# Altium integrated library Linear Technology Power Management Hot Swap Controllers.IntLib: 992 symbols (part 59 of 93)
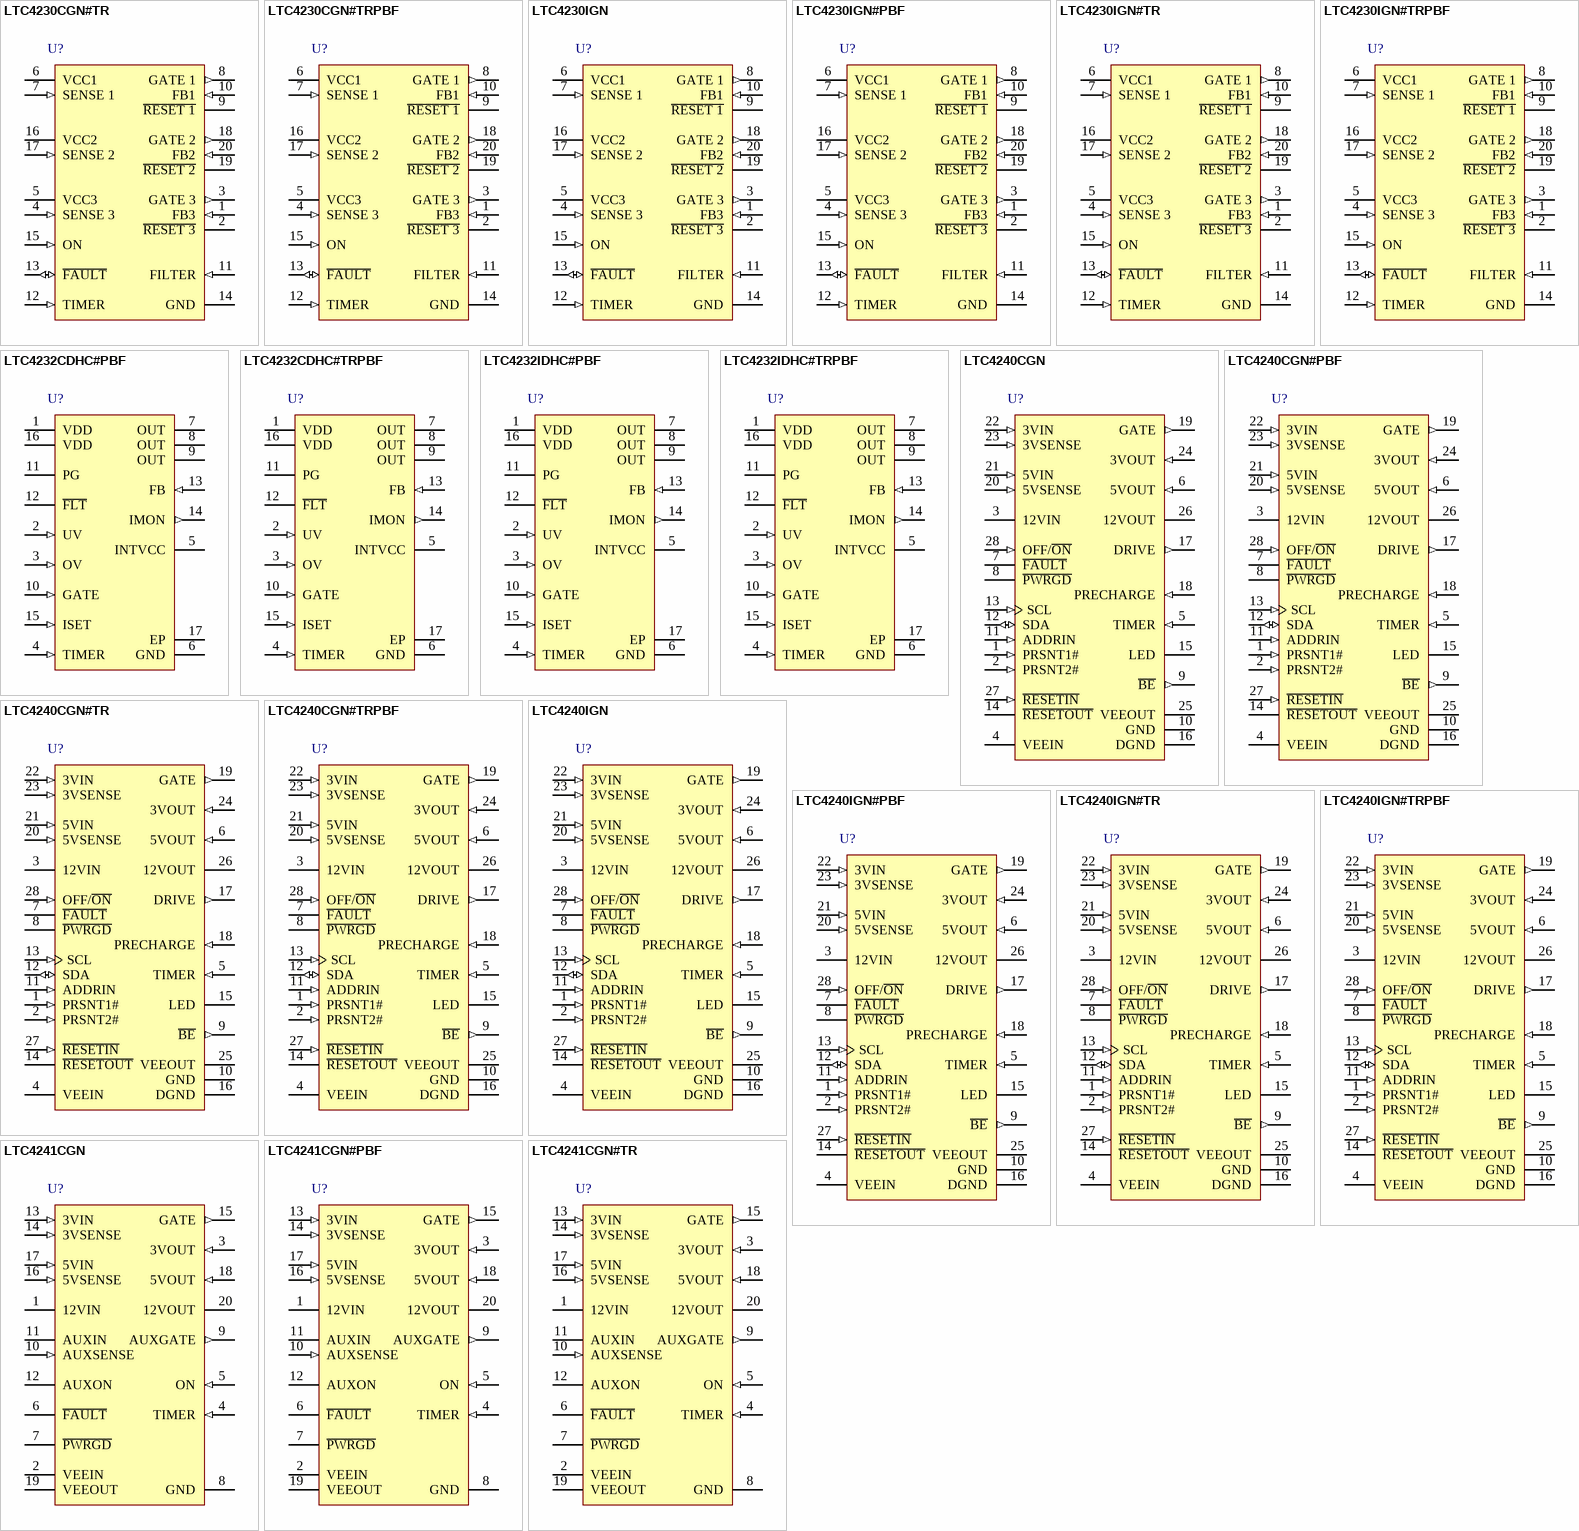
[diagram p95: symbols LTC4230CGN#TR to LTC4241CGN#TR]

## LTC4240CGN#TRPBF
designator U?
Compact PCI Hot Swap Controller with I2C Compatible Interface, 3.3 V, 5 V, +/-12 V Vin, 28-pin SOP (GN-28), 0 to 70 degC, Pb-Free, Tape and Reel; Manufacturer: Linear Technology; PartNumber: LTC4240CGN#TRPBF; Active Limiting: yes; Circuit Breaker Accuracy(%): 9; Circuit Breaker Threshold: 55 mV; Circuit Breakers(#): 4; Extended Temp: C, I; Fast Comparator: no; In-Rush Current: Active; PackageVersion: Rev. B, 03/2012; PackageReference: GN-28; PackageDescription: 28-Pin Plastic SSOP, Body 9.9 x 3.9 mm, Pitch 0.635 mm; Supplier 1: Digi-Key; Supplier Part Number 1: LTC4240CGN#TRPBF-ND; Fault: yes; Foldback: yes; Packing: Tape and Reel; Power Good: yes; Reset: no; RoHS: TRUE; Vin Range: 3.3 V, 5 V, +/-12 V; Mounting Technology: Surface Mount; ComponentLink1Description: Manufacturer URL; ComponentLink1URL: http://www.linear.com/; ComponentLink2Description: Datasheet; ComponentLink2URL: http://cds.linear.com/docs/en/datasheet/4240f.pdf; ComponentLink3Description: Package Specification; ComponentLink3URL: http://cds.linear.com/docs/en/packaging/05081641_B_GN28.pdf
footprint LT-GN-28_N (SOP, 28-Leads, Body 9.98x3.98mm, Pitch 0.635mm, IPC Medium Density)
footprint LT-GN-28_L (SOP, 28-Leads, Body 9.98x3.98mm, Pitch 0.635mm, IPC High Density)
footprint LT-GN-28_M (SOP, 28-Leads, Body 9.98x3.98mm, Pitch 0.635mm, IPC Low Density)
pins: 1 PRSNT1# (in) "PCI Present Detect Input 1. PRSNT1# and PRSNT2# are readable over the I2C Bus. PRSNT1# and PRSNT2# indicate the maximum power used by the card. Do not float.", 2 PRSNT2# (in) "PCI Present Detect Input 2. Do not float.", 3 12VIN (power) "12V Supply Input. A 0.5ohm switch is internally connected between 12VIN and 12VOUT with foldback current limit. An undervoltage lockout circuit prevents the switches from turning on while the 12VIN pin is below 8V. 12VIN (See Datasheet)", 4 VEEIN (power) "-12V Supply Input. A 1ohm internal switch is connected between VEEIN and VEEOUT with foldback current limit. An undervoltage lockout circuit prevents the switches from turning on while VEEIN is above - 9V. See Connecting (See Datasheet)", 5 TIMER (in) "Current Fault Inhibit Timing Input. Connect a capacitor from TIMER to GND. With the LTC4240 turned off (OFF/O\N\ = HIGH), the TIMER pin is internally held at GND. When the device is turned on, an 11.5uA pull-up current (See Datasheet)", 6 5VOUT (in) "5V Output Sense. The P\W\R\G\D\ pin will not pull low until the 5VOUT pin voltage exceeds 4.65V. When the power switches are turned off, a 50ohm resistor pulls 5VOUT to ground.", 7 ~{FAULT} (oc) "Open-Drain Fault Output . F\A\U\L\T\ is pulled low when a current limit fault is detected. Current limit faults are ignored until the voltage at the TIMER pin is above 5.5V. Once the TIMER cycle is complete, F\A\U\L\T\ pulls (See Datasheet)", 8 ~{PWRGD} (oc) "Open-Drain Power Good Output. Connect the CPCI HEALTHY# signal to the P\W\R\G\D\ pin. P\W\R\G\D\ remains low while V12VOUT>= 11.1V, V3VOUT>=2.9V, V5VOUT >=4.65V and VEEOUT=<-10.5V. When any of the supplies drops below its (See Datasheet)", 9 ~{BE} (out) "QuickSwitch Bus Enable Output. The B\E\ output remains high until power is good on all supplies. This serves to isolate the I/O data lines during live insertion. This is a CMOS output powered by 5VIN.", 10 GND (power) "Analog Ground. Connect to analog ground plane.", 11 ADDRIN (in) "I2C Address Programming Input. The I2C address is programmed by connecting the ADDRIN pin to a resistor divider between the 5VIN pin and GND. See Table 1 for 1% resistor values and corresponding addresses. Resistors must be (See Datasheet)", 12 SDA (io) "I2C Data Input and Output. Note that TTL levels are used. Connect this pin to ground if I2C is not used.", 13 SCL (in) "I2C Clock Input, 100kHz Maximum. Note that TTL levels are used. Do not float. Connect this pin to ground if I2C is not used.", 14 ~{RESETOUT} (oc) "Open-Drain Reset Output. Connect the CPCI LOCAL_PCI_RST# signal to the R\E\S\E\T\O\U\T\ pin. R\E\S\E\T\O\U\T\ is the logical combination of P\W\R\G\D\, and I2C R\E\S\E\T\O\U\T\ latch output.", 15 LED (oc) "CPCI Status LED. Pulls low to light LED when R\E\S\E\T\O\U\T\ is low or when the I2C LED latch is set.", 16 DGND (power) "Digital Ground. Connect to ground plane.", 17 DRIVE (out) "External transistor’s base drive output for bus precharge. Connects to the base of an external NPN emitter-follower which in turn biases the PRECHARGE node. An external 1k resistor between the transistor’s base and 3(See Datasheet)", 18 PRECHARGE (in) "Precharge Monitor Input. An internal error amplifier servos the DRIVE pin voltage to keep the precharge node at 1V. Becomes valid when long 5V and 3.3V power pins make contact .Tie pins 17 and 18 together if precharge (See Datasheet)", 19 GATE (out) "High Side Gate Drive for the External 3.3V and 5V N-Channel Power Transistors. An external series RC network is required for the current limit loop compensation and to set the maximum ramp-up rate. During power-up, the slope (See Datasheet)", 20 5VSENSE (in) "5V Current Limit Sense. A sense resistor placed between 5VIN and 5VSENSE determines the current limit for this supply. A foldback current feature makes the current limit decrease as the voltage at the 5VOUT pin approaches 0V.(See Datasheet)", 21 5VIN (in) "5V Supply Sense Input. An undervoltage lockout circuit prevents the switches from turning on when the voltage at the 5VIN pin is less than 4.3V. At least one long pin must be connected to 5VIN to ensure precharge output. See (See Datasheet)", 22 3VIN (in) "3.3V Supply Sense Input. An undervoltage lockout circuit prevents the switches from turning on when the voltage at the 3VIN pin is less than 2.45V. If no 3.3V input supply is available, connect two series diodes between 5VIN (See Datasheet)", 23 3VSENSE (in) "3.3V Current Limit Sense. A sense resistor placed between 3VIN and 3VSENSE determines the current limit for this supply. A foldback feature makes the current limit decrease as the voltage at the 3VOUT pin approaches 0V. To (See Datasheet)", 24 3VOUT (in) "3.3V Output Sense. The P\W\R\G\D\ pin cannot pull low until the 3VOUT pin voltage exceeds 2.9V. If no 3.3V input supply is available, tie the 3VOUT pin to the 5VOUT pin. When the power switches are turned off, a 150ohm (See Datasheet)", 25 VEEOUT (power) "-12V Supply Output. An internal 1ohm switch is connected between VEEIN and VEEOUT. VEEOUT must exceed -10.5V before the P\W\R\G\D\ pin pulls low. When the power switches are turned off, a 650W resistor pulls VEEOUT to ground.", 26 12VOUT (power) "12V Supply Output. A 0.5W switch isconnected between 12VIN and 12VOUT. 12VOUT must exceed 11.1V before the P\W\R\G\D\ pin can pull low. When the power switches are turned off, a 430ohm resistor pulls 12VOUT to ground.", 27 ~{RESETIN} (in) "PCI Reset Input. Connect the CPCI PCI_RST# signal to the R\E\S\E\T\I\N\ pin. Pulling R\E\S\E\T\I\N\ low will cause R\E\S\E\T\O\U\T\ to pull low. Note that the I2C R\E\S\E\T\I\N\ latch output can also set R\E\S\E\T\O\U\T\. Do (See Datasheet)", 28 OFF/~{ON} (in) "OFF/O\N\ Input. Connect the CPCI BD_SEL# signal to the OFF/O\N\ pin. When the OFF/O\N\ pin is pulled low, the GATE pin is pulled high by a 65uA current source and the internal 12V and -12V switches are turned on. When the (See Datasheet)"

## LTC4240IGN
designator U?
Compact PCI Hot Swap Controller with I2C Compatible Interface, 3.3 V, 5 V, +/-12 V Vin, 28-pin SOP (GN-28), -40 to 85 degC; Manufacturer: Linear Technology; PartNumber: LTC4240IGN; Active Limiting: yes; Circuit Breaker Accuracy(%): 9; Circuit Breaker Threshold: 55 mV; Circuit Breakers(#): 4; Extended Temp: C, I; Fast Comparator: no; In-Rush Current: Active; PackageVersion: Rev. B, 03/2012; PackageReference: GN-28; PackageDescription: 28-Pin Plastic SSOP, Body 9.9 x 3.9 mm, Pitch 0.635 mm; Supplier 1: Digi-Key; Supplier Part Number 1: LTC4240IGN-ND; Fault: yes; Foldback: yes; Power Good: yes; Reset: no; RoHS: FALSE; Vin Range: 3.3 V, 5 V, +/-12 V; Mounting Technology: Surface Mount; ComponentLink1Description: Manufacturer URL; ComponentLink1URL: http://www.linear.com/; ComponentLink2Description: Datasheet; ComponentLink2URL: http://cds.linear.com/docs/en/datasheet/4240f.pdf; ComponentLink3Description: Package Specification; ComponentLink3URL: http://cds.linear.com/docs/en/packaging/05081641_B_GN28.pdf
footprint LT-GN-28_N (SOP, 28-Leads, Body 9.98x3.98mm, Pitch 0.635mm, IPC Medium Density)
footprint LT-GN-28_L (SOP, 28-Leads, Body 9.98x3.98mm, Pitch 0.635mm, IPC High Density)
footprint LT-GN-28_M (SOP, 28-Leads, Body 9.98x3.98mm, Pitch 0.635mm, IPC Low Density)
pins: 1 PRSNT1# (in) "PCI Present Detect Input 1. PRSNT1# and PRSNT2# are readable over the I2C Bus. PRSNT1# and PRSNT2# indicate the maximum power used by the card. Do not float.", 2 PRSNT2# (in) "PCI Present Detect Input 2. Do not float.", 3 12VIN (power) "12V Supply Input. A 0.5ohm switch is internally connected between 12VIN and 12VOUT with foldback current limit. An undervoltage lockout circuit prevents the switches from turning on while the 12VIN pin is below 8V. 12VIN (See Datasheet)", 4 VEEIN (power) "-12V Supply Input. A 1ohm internal switch is connected between VEEIN and VEEOUT with foldback current limit. An undervoltage lockout circuit prevents the switches from turning on while VEEIN is above - 9V. See Connecting (See Datasheet)", 5 TIMER (in) "Current Fault Inhibit Timing Input. Connect a capacitor from TIMER to GND. With the LTC4240 turned off (OFF/O\N\ = HIGH), the TIMER pin is internally held at GND. When the device is turned on, an 11.5uA pull-up current (See Datasheet)", 6 5VOUT (in) "5V Output Sense. The P\W\R\G\D\ pin will not pull low until the 5VOUT pin voltage exceeds 4.65V. When the power switches are turned off, a 50ohm resistor pulls 5VOUT to ground.", 7 ~{FAULT} (oc) "Open-Drain Fault Output . F\A\U\L\T\ is pulled low when a current limit fault is detected. Current limit faults are ignored until the voltage at the TIMER pin is above 5.5V. Once the TIMER cycle is complete, F\A\U\L\T\ pulls (See Datasheet)", 8 ~{PWRGD} (oc) "Open-Drain Power Good Output. Connect the CPCI HEALTHY# signal to the P\W\R\G\D\ pin. P\W\R\G\D\ remains low while V12VOUT>= 11.1V, V3VOUT>=2.9V, V5VOUT >=4.65V and VEEOUT=<-10.5V. When any of the supplies drops below its (See Datasheet)", 9 ~{BE} (out) "QuickSwitch Bus Enable Output. The B\E\ output remains high until power is good on all supplies. This serves to isolate the I/O data lines during live insertion. This is a CMOS output powered by 5VIN.", 10 GND (power) "Analog Ground. Connect to analog ground plane.", 11 ADDRIN (in) "I2C Address Programming Input. The I2C address is programmed by connecting the ADDRIN pin to a resistor divider between the 5VIN pin and GND. See Table 1 for 1% resistor values and corresponding addresses. Resistors must be (See Datasheet)", 12 SDA (io) "I2C Data Input and Output. Note that TTL levels are used. Connect this pin to ground if I2C is not used.", 13 SCL (in) "I2C Clock Input, 100kHz Maximum. Note that TTL levels are used. Do not float. Connect this pin to ground if I2C is not used.", 14 ~{RESETOUT} (oc) "Open-Drain Reset Output. Connect the CPCI LOCAL_PCI_RST# signal to the R\E\S\E\T\O\U\T\ pin. R\E\S\E\T\O\U\T\ is the logical combination of P\W\R\G\D\, and I2C R\E\S\E\T\O\U\T\ latch output.", 15 LED (oc) "CPCI Status LED. Pulls low to light LED when R\E\S\E\T\O\U\T\ is low or when the I2C LED latch is set.", 16 DGND (power) "Digital Ground. Connect to ground plane.", 17 DRIVE (out) "External transistor’s base drive output for bus precharge. Connects to the base of an external NPN emitter-follower which in turn biases the PRECHARGE node. An external 1k resistor between the transistor’s base and 3(See Datasheet)", 18 PRECHARGE (in) "Precharge Monitor Input. An internal error amplifier servos the DRIVE pin voltage to keep the precharge node at 1V. Becomes valid when long 5V and 3.3V power pins make contact .Tie pins 17 and 18 together if precharge (See Datasheet)", 19 GATE (out) "High Side Gate Drive for the External 3.3V and 5V N-Channel Power Transistors. An external series RC network is required for the current limit loop compensation and to set the maximum ramp-up rate. During power-up, the slope (See Datasheet)", 20 5VSENSE (in) "5V Current Limit Sense. A sense resistor placed between 5VIN and 5VSENSE determines the current limit for this supply. A foldback current feature makes the current limit decrease as the voltage at the 5VOUT pin approaches 0V.(See Datasheet)", 21 5VIN (in) "5V Supply Sense Input. An undervoltage lockout circuit prevents the switches from turning on when the voltage at the 5VIN pin is less than 4.3V. At least one long pin must be connected to 5VIN to ensure precharge output. See (See Datasheet)", 22 3VIN (in) "3.3V Supply Sense Input. An undervoltage lockout circuit prevents the switches from turning on when the voltage at the 3VIN pin is less than 2.45V. If no 3.3V input supply is available, connect two series diodes between 5VIN (See Datasheet)", 23 3VSENSE (in) "3.3V Current Limit Sense. A sense resistor placed between 3VIN and 3VSENSE determines the current limit for this supply. A foldback feature makes the current limit decrease as the voltage at the 3VOUT pin approaches 0V. To (See Datasheet)", 24 3VOUT (in) "3.3V Output Sense. The P\W\R\G\D\ pin cannot pull low until the 3VOUT pin voltage exceeds 2.9V. If no 3.3V input supply is available, tie the 3VOUT pin to the 5VOUT pin. When the power switches are turned off, a 150ohm (See Datasheet)", 25 VEEOUT (power) "-12V Supply Output. An internal 1ohm switch is connected between VEEIN and VEEOUT. VEEOUT must exceed -10.5V before the P\W\R\G\D\ pin pulls low. When the power switches are turned off, a 650W resistor pulls VEEOUT to ground.", 26 12VOUT (power) "12V Supply Output. A 0.5W switch isconnected between 12VIN and 12VOUT. 12VOUT must exceed 11.1V before the P\W\R\G\D\ pin can pull low. When the power switches are turned off, a 430ohm resistor pulls 12VOUT to ground.", 27 ~{RESETIN} (in) "PCI Reset Input. Connect the CPCI PCI_RST# signal to the R\E\S\E\T\I\N\ pin. Pulling R\E\S\E\T\I\N\ low will cause R\E\S\E\T\O\U\T\ to pull low. Note that the I2C R\E\S\E\T\I\N\ latch output can also set R\E\S\E\T\O\U\T\. Do (See Datasheet)", 28 OFF/~{ON} (in) "OFF/O\N\ Input. Connect the CPCI BD_SEL# signal to the OFF/O\N\ pin. When the OFF/O\N\ pin is pulled low, the GATE pin is pulled high by a 65uA current source and the internal 12V and -12V switches are turned on. When the (See Datasheet)"

## LTC4240IGN#PBF
designator U?
Compact PCI Hot Swap Controller with I2C Compatible Interface, 3.3 V, 5 V, +/-12 V Vin, 28-pin SOP (GN-28), -40 to 85 degC, Pb-Free; Manufacturer: Linear Technology; PartNumber: LTC4240IGN#PBF; Active Limiting: yes; Circuit Breaker Accuracy(%): 9; Circuit Breaker Threshold: 55 mV; Circuit Breakers(#): 4; Extended Temp: C, I; Fast Comparator: no; In-Rush Current: Active; PackageVersion: Rev. B, 03/2012; PackageReference: GN-28; PackageDescription: 28-Pin Plastic SSOP, Body 9.9 x 3.9 mm, Pitch 0.635 mm; Supplier 1: Digi-Key; Supplier Part Number 1: LTC4240IGN#PBF-ND; Supplier 2: Newark; Supplier Part Number 2: 56M8892; Fault: yes; Foldback: yes; Power Good: yes; Reset: no; RoHS: TRUE; Vin Range: 3.3 V, 5 V, +/-12 V; Mounting Technology: Surface Mount; ComponentLink1Description: Manufacturer URL; ComponentLink1URL: http://www.linear.com/; ComponentLink2Description: Datasheet; ComponentLink2URL: http://cds.linear.com/docs/en/datasheet/4240f.pdf; ComponentLink3Description: Package Specification; ComponentLink3URL: http://cds.linear.com/docs/en/packaging/05081641_B_GN28.pdf
footprint LT-GN-28_N (SOP, 28-Leads, Body 9.98x3.98mm, Pitch 0.635mm, IPC Medium Density)
footprint LT-GN-28_L (SOP, 28-Leads, Body 9.98x3.98mm, Pitch 0.635mm, IPC High Density)
footprint LT-GN-28_M (SOP, 28-Leads, Body 9.98x3.98mm, Pitch 0.635mm, IPC Low Density)
pins: 1 PRSNT1# (in) "PCI Present Detect Input 1. PRSNT1# and PRSNT2# are readable over the I2C Bus. PRSNT1# and PRSNT2# indicate the maximum power used by the card. Do not float.", 2 PRSNT2# (in) "PCI Present Detect Input 2. Do not float.", 3 12VIN (power) "12V Supply Input. A 0.5ohm switch is internally connected between 12VIN and 12VOUT with foldback current limit. An undervoltage lockout circuit prevents the switches from turning on while the 12VIN pin is below 8V. 12VIN (See Datasheet)", 4 VEEIN (power) "-12V Supply Input. A 1ohm internal switch is connected between VEEIN and VEEOUT with foldback current limit. An undervoltage lockout circuit prevents the switches from turning on while VEEIN is above - 9V. See Connecting (See Datasheet)", 5 TIMER (in) "Current Fault Inhibit Timing Input. Connect a capacitor from TIMER to GND. With the LTC4240 turned off (OFF/O\N\ = HIGH), the TIMER pin is internally held at GND. When the device is turned on, an 11.5uA pull-up current (See Datasheet)", 6 5VOUT (in) "5V Output Sense. The P\W\R\G\D\ pin will not pull low until the 5VOUT pin voltage exceeds 4.65V. When the power switches are turned off, a 50ohm resistor pulls 5VOUT to ground.", 7 ~{FAULT} (oc) "Open-Drain Fault Output . F\A\U\L\T\ is pulled low when a current limit fault is detected. Current limit faults are ignored until the voltage at the TIMER pin is above 5.5V. Once the TIMER cycle is complete, F\A\U\L\T\ pulls (See Datasheet)", 8 ~{PWRGD} (oc) "Open-Drain Power Good Output. Connect the CPCI HEALTHY# signal to the P\W\R\G\D\ pin. P\W\R\G\D\ remains low while V12VOUT>= 11.1V, V3VOUT>=2.9V, V5VOUT >=4.65V and VEEOUT=<-10.5V. When any of the supplies drops below its (See Datasheet)", 9 ~{BE} (out) "QuickSwitch Bus Enable Output. The B\E\ output remains high until power is good on all supplies. This serves to isolate the I/O data lines during live insertion. This is a CMOS output powered by 5VIN.", 10 GND (power) "Analog Ground. Connect to analog ground plane.", 11 ADDRIN (in) "I2C Address Programming Input. The I2C address is programmed by connecting the ADDRIN pin to a resistor divider between the 5VIN pin and GND. See Table 1 for 1% resistor values and corresponding addresses. Resistors must be (See Datasheet)", 12 SDA (io) "I2C Data Input and Output. Note that TTL levels are used. Connect this pin to ground if I2C is not used.", 13 SCL (in) "I2C Clock Input, 100kHz Maximum. Note that TTL levels are used. Do not float. Connect this pin to ground if I2C is not used.", 14 ~{RESETOUT} (oc) "Open-Drain Reset Output. Connect the CPCI LOCAL_PCI_RST# signal to the R\E\S\E\T\O\U\T\ pin. R\E\S\E\T\O\U\T\ is the logical combination of P\W\R\G\D\, and I2C R\E\S\E\T\O\U\T\ latch output.", 15 LED (oc) "CPCI Status LED. Pulls low to light LED when R\E\S\E\T\O\U\T\ is low or when the I2C LED latch is set.", 16 DGND (power) "Digital Ground. Connect to ground plane.", 17 DRIVE (out) "External transistor’s base drive output for bus precharge. Connects to the base of an external NPN emitter-follower which in turn biases the PRECHARGE node. An external 1k resistor between the transistor’s base and 3(See Datasheet)", 18 PRECHARGE (in) "Precharge Monitor Input. An internal error amplifier servos the DRIVE pin voltage to keep the precharge node at 1V. Becomes valid when long 5V and 3.3V power pins make contact .Tie pins 17 and 18 together if precharge (See Datasheet)", 19 GATE (out) "High Side Gate Drive for the External 3.3V and 5V N-Channel Power Transistors. An external series RC network is required for the current limit loop compensation and to set the maximum ramp-up rate. During power-up, the slope (See Datasheet)", 20 5VSENSE (in) "5V Current Limit Sense. A sense resistor placed between 5VIN and 5VSENSE determines the current limit for this supply. A foldback current feature makes the current limit decrease as the voltage at the 5VOUT pin approaches 0V.(See Datasheet)", 21 5VIN (in) "5V Supply Sense Input. An undervoltage lockout circuit prevents the switches from turning on when the voltage at the 5VIN pin is less than 4.3V. At least one long pin must be connected to 5VIN to ensure precharge output. See (See Datasheet)", 22 3VIN (in) "3.3V Supply Sense Input. An undervoltage lockout circuit prevents the switches from turning on when the voltage at the 3VIN pin is less than 2.45V. If no 3.3V input supply is available, connect two series diodes between 5VIN (See Datasheet)", 23 3VSENSE (in) "3.3V Current Limit Sense. A sense resistor placed between 3VIN and 3VSENSE determines the current limit for this supply. A foldback feature makes the current limit decrease as the voltage at the 3VOUT pin approaches 0V. To (See Datasheet)", 24 3VOUT (in) "3.3V Output Sense. The P\W\R\G\D\ pin cannot pull low until the 3VOUT pin voltage exceeds 2.9V. If no 3.3V input supply is available, tie the 3VOUT pin to the 5VOUT pin. When the power switches are turned off, a 150ohm (See Datasheet)", 25 VEEOUT (power) "-12V Supply Output. An internal 1ohm switch is connected between VEEIN and VEEOUT. VEEOUT must exceed -10.5V before the P\W\R\G\D\ pin pulls low. When the power switches are turned off, a 650W resistor pulls VEEOUT to ground.", 26 12VOUT (power) "12V Supply Output. A 0.5W switch isconnected between 12VIN and 12VOUT. 12VOUT must exceed 11.1V before the P\W\R\G\D\ pin can pull low. When the power switches are turned off, a 430ohm resistor pulls 12VOUT to ground.", 27 ~{RESETIN} (in) "PCI Reset Input. Connect the CPCI PCI_RST# signal to the R\E\S\E\T\I\N\ pin. Pulling R\E\S\E\T\I\N\ low will cause R\E\S\E\T\O\U\T\ to pull low. Note that the I2C R\E\S\E\T\I\N\ latch output can also set R\E\S\E\T\O\U\T\. Do (See Datasheet)", 28 OFF/~{ON} (in) "OFF/O\N\ Input. Connect the CPCI BD_SEL# signal to the OFF/O\N\ pin. When the OFF/O\N\ pin is pulled low, the GATE pin is pulled high by a 65uA current source and the internal 12V and -12V switches are turned on. When the (See Datasheet)"

## LTC4240IGN#TR
designator U?
Compact PCI Hot Swap Controller with I2C Compatible Interface, 3.3 V, 5 V, +/-12 V Vin, 28-pin SOP (GN-28), -40 to 85 degC, Tape and Reel; Manufacturer: Linear Technology; PartNumber: LTC4240IGN#TR; Active Limiting: yes; Circuit Breaker Accuracy(%): 9; Circuit Breaker Threshold: 55 mV; Circuit Breakers(#): 4; Extended Temp: C, I; Fast Comparator: no; In-Rush Current: Active; PackageVersion: Rev. B, 03/2012; PackageReference: GN-28; PackageDescription: 28-Pin Plastic SSOP, Body 9.9 x 3.9 mm, Pitch 0.635 mm; Supplier 1: Digi-Key; Supplier Part Number 1: LTC4240IGN#TR-ND; Fault: yes; Foldback: yes; Packing: Tape and Reel; Power Good: yes; Reset: no; RoHS: FALSE; Vin Range: 3.3 V, 5 V, +/-12 V; Mounting Technology: Surface Mount; ComponentLink1Description: Manufacturer URL; ComponentLink1URL: http://www.linear.com/; ComponentLink2Description: Datasheet; ComponentLink2URL: http://cds.linear.com/docs/en/datasheet/4240f.pdf; ComponentLink3Description: Package Specification; ComponentLink3URL: http://cds.linear.com/docs/en/packaging/05081641_B_GN28.pdf
footprint LT-GN-28_N (SOP, 28-Leads, Body 9.98x3.98mm, Pitch 0.635mm, IPC Medium Density)
footprint LT-GN-28_L (SOP, 28-Leads, Body 9.98x3.98mm, Pitch 0.635mm, IPC High Density)
footprint LT-GN-28_M (SOP, 28-Leads, Body 9.98x3.98mm, Pitch 0.635mm, IPC Low Density)
pins: 1 PRSNT1# (in) "PCI Present Detect Input 1. PRSNT1# and PRSNT2# are readable over the I2C Bus. PRSNT1# and PRSNT2# indicate the maximum power used by the card. Do not float.", 2 PRSNT2# (in) "PCI Present Detect Input 2. Do not float.", 3 12VIN (power) "12V Supply Input. A 0.5ohm switch is internally connected between 12VIN and 12VOUT with foldback current limit. An undervoltage lockout circuit prevents the switches from turning on while the 12VIN pin is below 8V. 12VIN (See Datasheet)", 4 VEEIN (power) "-12V Supply Input. A 1ohm internal switch is connected between VEEIN and VEEOUT with foldback current limit. An undervoltage lockout circuit prevents the switches from turning on while VEEIN is above - 9V. See Connecting (See Datasheet)", 5 TIMER (in) "Current Fault Inhibit Timing Input. Connect a capacitor from TIMER to GND. With the LTC4240 turned off (OFF/O\N\ = HIGH), the TIMER pin is internally held at GND. When the device is turned on, an 11.5uA pull-up current (See Datasheet)", 6 5VOUT (in) "5V Output Sense. The P\W\R\G\D\ pin will not pull low until the 5VOUT pin voltage exceeds 4.65V. When the power switches are turned off, a 50ohm resistor pulls 5VOUT to ground.", 7 ~{FAULT} (oc) "Open-Drain Fault Output . F\A\U\L\T\ is pulled low when a current limit fault is detected. Current limit faults are ignored until the voltage at the TIMER pin is above 5.5V. Once the TIMER cycle is complete, F\A\U\L\T\ pulls (See Datasheet)", 8 ~{PWRGD} (oc) "Open-Drain Power Good Output. Connect the CPCI HEALTHY# signal to the P\W\R\G\D\ pin. P\W\R\G\D\ remains low while V12VOUT>= 11.1V, V3VOUT>=2.9V, V5VOUT >=4.65V and VEEOUT=<-10.5V. When any of the supplies drops below its (See Datasheet)", 9 ~{BE} (out) "QuickSwitch Bus Enable Output. The B\E\ output remains high until power is good on all supplies. This serves to isolate the I/O data lines during live insertion. This is a CMOS output powered by 5VIN.", 10 GND (power) "Analog Ground. Connect to analog ground plane.", 11 ADDRIN (in) "I2C Address Programming Input. The I2C address is programmed by connecting the ADDRIN pin to a resistor divider between the 5VIN pin and GND. See Table 1 for 1% resistor values and corresponding addresses. Resistors must be (See Datasheet)", 12 SDA (io) "I2C Data Input and Output. Note that TTL levels are used. Connect this pin to ground if I2C is not used.", 13 SCL (in) "I2C Clock Input, 100kHz Maximum. Note that TTL levels are used. Do not float. Connect this pin to ground if I2C is not used.", 14 ~{RESETOUT} (oc) "Open-Drain Reset Output. Connect the CPCI LOCAL_PCI_RST# signal to the R\E\S\E\T\O\U\T\ pin. R\E\S\E\T\O\U\T\ is the logical combination of P\W\R\G\D\, and I2C R\E\S\E\T\O\U\T\ latch output.", 15 LED (oc) "CPCI Status LED. Pulls low to light LED when R\E\S\E\T\O\U\T\ is low or when the I2C LED latch is set.", 16 DGND (power) "Digital Ground. Connect to ground plane.", 17 DRIVE (out) "External transistor’s base drive output for bus precharge. Connects to the base of an external NPN emitter-follower which in turn biases the PRECHARGE node. An external 1k resistor between the transistor’s base and 3(See Datasheet)", 18 PRECHARGE (in) "Precharge Monitor Input. An internal error amplifier servos the DRIVE pin voltage to keep the precharge node at 1V. Becomes valid when long 5V and 3.3V power pins make contact .Tie pins 17 and 18 together if precharge (See Datasheet)", 19 GATE (out) "High Side Gate Drive for the External 3.3V and 5V N-Channel Power Transistors. An external series RC network is required for the current limit loop compensation and to set the maximum ramp-up rate. During power-up, the slope (See Datasheet)", 20 5VSENSE (in) "5V Current Limit Sense. A sense resistor placed between 5VIN and 5VSENSE determines the current limit for this supply. A foldback current feature makes the current limit decrease as the voltage at the 5VOUT pin approaches 0V.(See Datasheet)", 21 5VIN (in) "5V Supply Sense Input. An undervoltage lockout circuit prevents the switches from turning on when the voltage at the 5VIN pin is less than 4.3V. At least one long pin must be connected to 5VIN to ensure precharge output. See (See Datasheet)", 22 3VIN (in) "3.3V Supply Sense Input. An undervoltage lockout circuit prevents the switches from turning on when the voltage at the 3VIN pin is less than 2.45V. If no 3.3V input supply is available, connect two series diodes between 5VIN (See Datasheet)", 23 3VSENSE (in) "3.3V Current Limit Sense. A sense resistor placed between 3VIN and 3VSENSE determines the current limit for this supply. A foldback feature makes the current limit decrease as the voltage at the 3VOUT pin approaches 0V. To (See Datasheet)", 24 3VOUT (in) "3.3V Output Sense. The P\W\R\G\D\ pin cannot pull low until the 3VOUT pin voltage exceeds 2.9V. If no 3.3V input supply is available, tie the 3VOUT pin to the 5VOUT pin. When the power switches are turned off, a 150ohm (See Datasheet)", 25 VEEOUT (power) "-12V Supply Output. An internal 1ohm switch is connected between VEEIN and VEEOUT. VEEOUT must exceed -10.5V before the P\W\R\G\D\ pin pulls low. When the power switches are turned off, a 650W resistor pulls VEEOUT to ground.", 26 12VOUT (power) "12V Supply Output. A 0.5W switch isconnected between 12VIN and 12VOUT. 12VOUT must exceed 11.1V before the P\W\R\G\D\ pin can pull low. When the power switches are turned off, a 430ohm resistor pulls 12VOUT to ground.", 27 ~{RESETIN} (in) "PCI Reset Input. Connect the CPCI PCI_RST# signal to the R\E\S\E\T\I\N\ pin. Pulling R\E\S\E\T\I\N\ low will cause R\E\S\E\T\O\U\T\ to pull low. Note that the I2C R\E\S\E\T\I\N\ latch output can also set R\E\S\E\T\O\U\T\. Do (See Datasheet)", 28 OFF/~{ON} (in) "OFF/O\N\ Input. Connect the CPCI BD_SEL# signal to the OFF/O\N\ pin. When the OFF/O\N\ pin is pulled low, the GATE pin is pulled high by a 65uA current source and the internal 12V and -12V switches are turned on. When the (See Datasheet)"

## LTC4240IGN#TRPBF
designator U?
Compact PCI Hot Swap Controller with I2C Compatible Interface, 3.3 V, 5 V, +/-12 V Vin, 28-pin SOP (GN-28), -40 to 85 degC, Pb-Free, Tape and Reel; Manufacturer: Linear Technology; PartNumber: LTC4240IGN#TRPBF; Active Limiting: yes; Circuit Breaker Accuracy(%): 9; Circuit Breaker Threshold: 55 mV; Circuit Breakers(#): 4; Extended Temp: C, I; Fast Comparator: no; In-Rush Current: Active; PackageVersion: Rev. B, 03/2012; PackageReference: GN-28; PackageDescription: 28-Pin Plastic SSOP, Body 9.9 x 3.9 mm, Pitch 0.635 mm; Supplier 1: Digi-Key; Supplier Part Number 1: LTC4240IGN#TRPBF-ND; Fault: yes; Foldback: yes; Packing: Tape and Reel; Power Good: yes; Reset: no; RoHS: TRUE; Vin Range: 3.3 V, 5 V, +/-12 V; Mounting Technology: Surface Mount; ComponentLink1Description: Manufacturer URL; ComponentLink1URL: http://www.linear.com/; ComponentLink2Description: Datasheet; ComponentLink2URL: http://cds.linear.com/docs/en/datasheet/4240f.pdf; ComponentLink3Description: Package Specification; ComponentLink3URL: http://cds.linear.com/docs/en/packaging/05081641_B_GN28.pdf
footprint LT-GN-28_N (SOP, 28-Leads, Body 9.98x3.98mm, Pitch 0.635mm, IPC Medium Density)
footprint LT-GN-28_L (SOP, 28-Leads, Body 9.98x3.98mm, Pitch 0.635mm, IPC High Density)
footprint LT-GN-28_M (SOP, 28-Leads, Body 9.98x3.98mm, Pitch 0.635mm, IPC Low Density)
pins: 1 PRSNT1# (in) "PCI Present Detect Input 1. PRSNT1# and PRSNT2# are readable over the I2C Bus. PRSNT1# and PRSNT2# indicate the maximum power used by the card. Do not float.", 2 PRSNT2# (in) "PCI Present Detect Input 2. Do not float.", 3 12VIN (power) "12V Supply Input. A 0.5ohm switch is internally connected between 12VIN and 12VOUT with foldback current limit. An undervoltage lockout circuit prevents the switches from turning on while the 12VIN pin is below 8V. 12VIN (See Datasheet)", 4 VEEIN (power) "-12V Supply Input. A 1ohm internal switch is connected between VEEIN and VEEOUT with foldback current limit. An undervoltage lockout circuit prevents the switches from turning on while VEEIN is above - 9V. See Connecting (See Datasheet)", 5 TIMER (in) "Current Fault Inhibit Timing Input. Connect a capacitor from TIMER to GND. With the LTC4240 turned off (OFF/O\N\ = HIGH), the TIMER pin is internally held at GND. When the device is turned on, an 11.5uA pull-up current (See Datasheet)", 6 5VOUT (in) "5V Output Sense. The P\W\R\G\D\ pin will not pull low until the 5VOUT pin voltage exceeds 4.65V. When the power switches are turned off, a 50ohm resistor pulls 5VOUT to ground.", 7 ~{FAULT} (oc) "Open-Drain Fault Output . F\A\U\L\T\ is pulled low when a current limit fault is detected. Current limit faults are ignored until the voltage at the TIMER pin is above 5.5V. Once the TIMER cycle is complete, F\A\U\L\T\ pulls (See Datasheet)", 8 ~{PWRGD} (oc) "Open-Drain Power Good Output. Connect the CPCI HEALTHY# signal to the P\W\R\G\D\ pin. P\W\R\G\D\ remains low while V12VOUT>= 11.1V, V3VOUT>=2.9V, V5VOUT >=4.65V and VEEOUT=<-10.5V. When any of the supplies drops below its (See Datasheet)", 9 ~{BE} (out) "QuickSwitch Bus Enable Output. The B\E\ output remains high until power is good on all supplies. This serves to isolate the I/O data lines during live insertion. This is a CMOS output powered by 5VIN.", 10 GND (power) "Analog Ground. Connect to analog ground plane.", 11 ADDRIN (in) "I2C Address Programming Input. The I2C address is programmed by connecting the ADDRIN pin to a resistor divider between the 5VIN pin and GND. See Table 1 for 1% resistor values and corresponding addresses. Resistors must be (See Datasheet)", 12 SDA (io) "I2C Data Input and Output. Note that TTL levels are used. Connect this pin to ground if I2C is not used.", 13 SCL (in) "I2C Clock Input, 100kHz Maximum. Note that TTL levels are used. Do not float. Connect this pin to ground if I2C is not used.", 14 ~{RESETOUT} (oc) "Open-Drain Reset Output. Connect the CPCI LOCAL_PCI_RST# signal to the R\E\S\E\T\O\U\T\ pin. R\E\S\E\T\O\U\T\ is the logical combination of P\W\R\G\D\, and I2C R\E\S\E\T\O\U\T\ latch output.", 15 LED (oc) "CPCI Status LED. Pulls low to light LED when R\E\S\E\T\O\U\T\ is low or when the I2C LED latch is set.", 16 DGND (power) "Digital Ground. Connect to ground plane.", 17 DRIVE (out) "External transistor’s base drive output for bus precharge. Connects to the base of an external NPN emitter-follower which in turn biases the PRECHARGE node. An external 1k resistor between the transistor’s base and 3(See Datasheet)", 18 PRECHARGE (in) "Precharge Monitor Input. An internal error amplifier servos the DRIVE pin voltage to keep the precharge node at 1V. Becomes valid when long 5V and 3.3V power pins make contact .Tie pins 17 and 18 together if precharge (See Datasheet)", 19 GATE (out) "High Side Gate Drive for the External 3.3V and 5V N-Channel Power Transistors. An external series RC network is required for the current limit loop compensation and to set the maximum ramp-up rate. During power-up, the slope (See Datasheet)", 20 5VSENSE (in) "5V Current Limit Sense. A sense resistor placed between 5VIN and 5VSENSE determines the current limit for this supply. A foldback current feature makes the current limit decrease as the voltage at the 5VOUT pin approaches 0V.(See Datasheet)", 21 5VIN (in) "5V Supply Sense Input. An undervoltage lockout circuit prevents the switches from turning on when the voltage at the 5VIN pin is less than 4.3V. At least one long pin must be connected to 5VIN to ensure precharge output. See (See Datasheet)", 22 3VIN (in) "3.3V Supply Sense Input. An undervoltage lockout circuit prevents the switches from turning on when the voltage at the 3VIN pin is less than 2.45V. If no 3.3V input supply is available, connect two series diodes between 5VIN (See Datasheet)", 23 3VSENSE (in) "3.3V Current Limit Sense. A sense resistor placed between 3VIN and 3VSENSE determines the current limit for this supply. A foldback feature makes the current limit decrease as the voltage at the 3VOUT pin approaches 0V. To (See Datasheet)", 24 3VOUT (in) "3.3V Output Sense. The P\W\R\G\D\ pin cannot pull low until the 3VOUT pin voltage exceeds 2.9V. If no 3.3V input supply is available, tie the 3VOUT pin to the 5VOUT pin. When the power switches are turned off, a 150ohm (See Datasheet)", 25 VEEOUT (power) "-12V Supply Output. An internal 1ohm switch is connected between VEEIN and VEEOUT. VEEOUT must exceed -10.5V before the P\W\R\G\D\ pin pulls low. When the power switches are turned off, a 650W resistor pulls VEEOUT to ground.", 26 12VOUT (power) "12V Supply Output. A 0.5W switch isconnected between 12VIN and 12VOUT. 12VOUT must exceed 11.1V before the P\W\R\G\D\ pin can pull low. When the power switches are turned off, a 430ohm resistor pulls 12VOUT to ground.", 27 ~{RESETIN} (in) "PCI Reset Input. Connect the CPCI PCI_RST# signal to the R\E\S\E\T\I\N\ pin. Pulling R\E\S\E\T\I\N\ low will cause R\E\S\E\T\O\U\T\ to pull low. Note that the I2C R\E\S\E\T\I\N\ latch output can also set R\E\S\E\T\O\U\T\. Do (See Datasheet)", 28 OFF/~{ON} (in) "OFF/O\N\ Input. Connect the CPCI BD_SEL# signal to the OFF/O\N\ pin. When the OFF/O\N\ pin is pulled low, the GATE pin is pulled high by a 65uA current source and the internal 12V and -12V switches are turned on. When the (See Datasheet)"

## LTC4241CGN
designator U?
PCI-Bus with Auxiliary Hot Swap Controller, 3.3 V, 5 V, +/-12 V, 3.3 V Aux Vin, 20-pin SOP (GN-20), 0 to 70 degC; Manufacturer: Linear Technology; PartNumber: LTC4241CGN; Active Limiting: yes; Circuit Breaker Accuracy(%): 27; Circuit Breaker Threshold: 55 mV (3.3,5), 850 mA (12), 450 mA (-12); Circuit Breakers(#): 5; Extended Temp: C, I; Fast Comparator: no; In-Rush Current: Active; PackageVersion: Rev. B, 03/2012; PackageReference: GN-20; PackageDescription: 20-Pin Plastic SSOP, Body 8.649 x 3.899 mm, Pitch 0.635 mm; Supplier 1: Digi-Key; Supplier Part Number 1: LTC4241CGN-ND; Fault: yes; Foldback: yes; Power Good: yes; Reset: no; RoHS: FALSE; Vin Range: 3.3 V, 5 V, +/-12 V, 3.3 V aux; Mounting Technology: Surface Mount; ComponentLink1Description: Manufacturer URL; ComponentLink1URL: http://www.linear.com/; ComponentLink2Description: Datasheet; ComponentLink2URL: http://cds.linear.com/docs/en/datasheet/4241fs.pdf; ComponentLink3Description: Package Specification; ComponentLink3URL: http://cds.linear.com/docs/en/packaging/05081641_B_GN20.pdf
footprint LT-GN-20_N (SOP, 20-Leads, Body 8.7x4mm, Pitch 0.635mm, IPC Medium Density)
footprint LT-GN-20_L (SOP, 20-Leads, Body 8.7x4mm, Pitch 0.635mm, IPC High Density)
footprint LT-GN-20_M (SOP, 20-Leads, Body 8.7x4mm, Pitch 0.635mm, IPC Low Density)
pins: 1 12VIN (power) "12V Supply Input. This pin powers the primary controller internal circuitry. A 0.5ohm switch is connected between 12VIN and 12VOUT with a foldback current limit. An undervoltage lockout circuit prevents the switches from (See Datasheet)", 2 VEEIN (power) "-12V Supply Input. A 1.2ohm switch is connected between VEEIN and VEEOUT with a foldback current limit.", 3 3VOUT (in) "3.3V Output Monitor. Used to monitor the 3.3V output supply voltage. The P\W\R\G\D\ signal cannot go low until the 3VOUT pin exceeds 2.9V.", 4 TIMER (in) "Current Limit Fault Timer Input. Connect a capacitor from TIMER to ground.", 5 ON (in) "On Control Input. A rising edge turns on the external N-channel FETs for 3.3V and 5V PCI supplies, the internal 12V and -12V switches and a falling edge turns it off. If the ON pin is cycled low then high following the trip (See Datasheet)", 6 ~{FAULT} (oc) "Fault Output. Open drain logic output used by both the primary and auxiliary controller to indicate an overcurrent fault condition.", 7 ~{PWRGD} (oc) "Power Good Output. Open drain logic output used by the primary controller to indicate the voltage status of the PCI supplies.", 8 GND (power) "Chip Ground", 9 AUXGATE (out) "High Side Gate Drive for the 3.3V Auxiliary External N-channel MOSFET. An internal charge pump generates at least 8V of gate drive from a 3.3V auxiliary supply.", 10 AUXSENSE (in) "3.3V Auxiliary Circuit Breaker Current Sense Input. The load current is monitored by a sense resistor connected between AUXIN and AUXSENSE. The circuit breaker trips if the voltage across the sense resistor exceeds 50mV and (See Datasheet)", 11 AUXIN (power) "3.3V Auxiliary Supply Input. This pin powers the auxiliary controller internal circuitry.", 12 AUXON (power) "ON Control Input for Auxiliary Supply. A rising edge turns on the external N-channel FET for 3.3V auxiliary supply and a falling edge turns it off. If the AUXON pin is cycled low then high following the trip of the circuit (See Datasheet)", 13 3VIN (in) "3.3V Supply Sense Input.", 14 3VSENSE (in) "3.3V Current Limit Set Pin.", 15 GATE (out) "High Side Gate Drive for the 3.3V and 5V PCI Supplies External N-channel MOSFETs.", 16 5VSENSE (in) "5V Current Limit Set Pin.", 17 5VIN (in) "5V Supply Sense Input.", 18 5VOUT (in) "5V Output Monitor.Used to monitor the 5V output supply voltage. The PWRGD signal cannot go low until the 5VOUT pin exceeds 4.65V.", 19 VEEOUT (power) "-12V Supply Output.", 20 12VOUT (power) "12V Supply Output.A 0.5ohm switch is connected between 12VIN and 12VOUT. 12VOUT must exceed 11.1V before the P\W\R\G\D\ signal can go low on the LTC4241"

## LTC4241CGN#PBF
designator U?
PCI-Bus with Auxiliary Hot Swap Controller, 3.3 V, 5 V, +/-12 V, 3.3 V Aux Vin, 20-pin SOP (GN-20), 0 to 70 degC, Pb-Free; Manufacturer: Linear Technology; PartNumber: LTC4241CGN#PBF; Active Limiting: yes; Circuit Breaker Accuracy(%): 27; Circuit Breaker Threshold: 55 mV (3.3,5), 850 mA (12), 450 mA (-12); Circuit Breakers(#): 5; Extended Temp: C, I; Fast Comparator: no; In-Rush Current: Active; PackageVersion: Rev. B, 03/2012; PackageReference: GN-20; PackageDescription: 20-Pin Plastic SSOP, Body 8.649 x 3.899 mm, Pitch 0.635 mm; Supplier 1: Digi-Key; Supplier Part Number 1: LTC4241CGN#PBF-ND; Supplier 2: Newark; Supplier Part Number 2: 56M8896; Fault: yes; Foldback: yes; Power Good: yes; Reset: no; RoHS: TRUE; Vin Range: 3.3 V, 5 V, +/-12 V, 3.3 V aux; Mounting Technology: Surface Mount; ComponentLink1Description: Manufacturer URL; ComponentLink1URL: http://www.linear.com/; ComponentLink2Description: Datasheet; ComponentLink2URL: http://cds.linear.com/docs/en/datasheet/4241fs.pdf; ComponentLink3Description: Package Specification; ComponentLink3URL: http://cds.linear.com/docs/en/packaging/05081641_B_GN20.pdf
footprint LT-GN-20_N (SOP, 20-Leads, Body 8.7x4mm, Pitch 0.635mm, IPC Medium Density)
footprint LT-GN-20_L (SOP, 20-Leads, Body 8.7x4mm, Pitch 0.635mm, IPC High Density)
footprint LT-GN-20_M (SOP, 20-Leads, Body 8.7x4mm, Pitch 0.635mm, IPC Low Density)
pins: 1 12VIN (power) "12V Supply Input. This pin powers the primary controller internal circuitry. A 0.5ohm switch is connected between 12VIN and 12VOUT with a foldback current limit. An undervoltage lockout circuit prevents the switches from (See Datasheet)", 2 VEEIN (power) "-12V Supply Input. A 1.2ohm switch is connected between VEEIN and VEEOUT with a foldback current limit.", 3 3VOUT (in) "3.3V Output Monitor. Used to monitor the 3.3V output supply voltage. The P\W\R\G\D\ signal cannot go low until the 3VOUT pin exceeds 2.9V.", 4 TIMER (in) "Current Limit Fault Timer Input. Connect a capacitor from TIMER to ground.", 5 ON (in) "On Control Input. A rising edge turns on the external N-channel FETs for 3.3V and 5V PCI supplies, the internal 12V and -12V switches and a falling edge turns it off. If the ON pin is cycled low then high following the trip (See Datasheet)", 6 ~{FAULT} (oc) "Fault Output. Open drain logic output used by both the primary and auxiliary controller to indicate an overcurrent fault condition.", 7 ~{PWRGD} (oc) "Power Good Output. Open drain logic output used by the primary controller to indicate the voltage status of the PCI supplies.", 8 GND (power) "Chip Ground", 9 AUXGATE (out) "High Side Gate Drive for the 3.3V Auxiliary External N-channel MOSFET. An internal charge pump generates at least 8V of gate drive from a 3.3V auxiliary supply.", 10 AUXSENSE (in) "3.3V Auxiliary Circuit Breaker Current Sense Input. The load current is monitored by a sense resistor connected between AUXIN and AUXSENSE. The circuit breaker trips if the voltage across the sense resistor exceeds 50mV and (See Datasheet)", 11 AUXIN (power) "3.3V Auxiliary Supply Input. This pin powers the auxiliary controller internal circuitry.", 12 AUXON (power) "ON Control Input for Auxiliary Supply. A rising edge turns on the external N-channel FET for 3.3V auxiliary supply and a falling edge turns it off. If the AUXON pin is cycled low then high following the trip of the circuit (See Datasheet)", 13 3VIN (in) "3.3V Supply Sense Input.", 14 3VSENSE (in) "3.3V Current Limit Set Pin.", 15 GATE (out) "High Side Gate Drive for the 3.3V and 5V PCI Supplies External N-channel MOSFETs.", 16 5VSENSE (in) "5V Current Limit Set Pin.", 17 5VIN (in) "5V Supply Sense Input.", 18 5VOUT (in) "5V Output Monitor.Used to monitor the 5V output supply voltage. The PWRGD signal cannot go low until the 5VOUT pin exceeds 4.65V.", 19 VEEOUT (power) "-12V Supply Output.", 20 12VOUT (power) "12V Supply Output.A 0.5ohm switch is connected between 12VIN and 12VOUT. 12VOUT must exceed 11.1V before the P\W\R\G\D\ signal can go low on the LTC4241"

## LTC4241CGN#TR
designator U?
PCI-Bus with Auxiliary Hot Swap Controller, 3.3 V, 5 V, +/-12 V, 3.3 V Aux Vin, 20-pin SOP (GN-20), 0 to 70 degC, Tape and Reel; Manufacturer: Linear Technology; PartNumber: LTC4241CGN#TR; Active Limiting: yes; Circuit Breaker Accuracy(%): 27; Circuit Breaker Threshold: 55 mV (3.3,5), 850 mA (12), 450 mA (-12); Circuit Breakers(#): 5; Extended Temp: C, I; Fast Comparator: no; In-Rush Current: Active; PackageVersion: Rev. B, 03/2012; PackageReference: GN-20; PackageDescription: 20-Pin Plastic SSOP, Body 8.649 x 3.899 mm, Pitch 0.635 mm; Supplier 1: Digi-Key; Supplier Part Number 1: LTC4241CGN#TR; Fault: yes; Foldback: yes; Packing: Tape and Reel; Power Good: yes; Reset: no; RoHS: FALSE; Vin Range: 3.3 V, 5 V, +/-12 V, 3.3 V aux; Mounting Technology: Surface Mount; ComponentLink1Description: Manufacturer URL; ComponentLink1URL: http://www.linear.com/; ComponentLink2Description: Datasheet; ComponentLink2URL: http://cds.linear.com/docs/en/datasheet/4241fs.pdf; ComponentLink3Description: Package Specification; ComponentLink3URL: http://cds.linear.com/docs/en/packaging/05081641_B_GN20.pdf
footprint LT-GN-20_N (SOP, 20-Leads, Body 8.7x4mm, Pitch 0.635mm, IPC Medium Density)
footprint LT-GN-20_L (SOP, 20-Leads, Body 8.7x4mm, Pitch 0.635mm, IPC High Density)
footprint LT-GN-20_M (SOP, 20-Leads, Body 8.7x4mm, Pitch 0.635mm, IPC Low Density)
pins: 1 12VIN (power) "12V Supply Input. This pin powers the primary controller internal circuitry. A 0.5ohm switch is connected between 12VIN and 12VOUT with a foldback current limit. An undervoltage lockout circuit prevents the switches from (See Datasheet)", 2 VEEIN (power) "-12V Supply Input. A 1.2ohm switch is connected between VEEIN and VEEOUT with a foldback current limit.", 3 3VOUT (in) "3.3V Output Monitor. Used to monitor the 3.3V output supply voltage. The P\W\R\G\D\ signal cannot go low until the 3VOUT pin exceeds 2.9V.", 4 TIMER (in) "Current Limit Fault Timer Input. Connect a capacitor from TIMER to ground.", 5 ON (in) "On Control Input. A rising edge turns on the external N-channel FETs for 3.3V and 5V PCI supplies, the internal 12V and -12V switches and a falling edge turns it off. If the ON pin is cycled low then high following the trip (See Datasheet)", 6 ~{FAULT} (oc) "Fault Output. Open drain logic output used by both the primary and auxiliary controller to indicate an overcurrent fault condition.", 7 ~{PWRGD} (oc) "Power Good Output. Open drain logic output used by the primary controller to indicate the voltage status of the PCI supplies.", 8 GND (power) "Chip Ground", 9 AUXGATE (out) "High Side Gate Drive for the 3.3V Auxiliary External N-channel MOSFET. An internal charge pump generates at least 8V of gate drive from a 3.3V auxiliary supply.", 10 AUXSENSE (in) "3.3V Auxiliary Circuit Breaker Current Sense Input. The load current is monitored by a sense resistor connected between AUXIN and AUXSENSE. The circuit breaker trips if the voltage across the sense resistor exceeds 50mV and (See Datasheet)", 11 AUXIN (power) "3.3V Auxiliary Supply Input. This pin powers the auxiliary controller internal circuitry.", 12 AUXON (power) "ON Control Input for Auxiliary Supply. A rising edge turns on the external N-channel FET for 3.3V auxiliary supply and a falling edge turns it off. If the AUXON pin is cycled low then high following the trip of the circuit (See Datasheet)", 13 3VIN (in) "3.3V Supply Sense Input.", 14 3VSENSE (in) "3.3V Current Limit Set Pin.", 15 GATE (out) "High Side Gate Drive for the 3.3V and 5V PCI Supplies External N-channel MOSFETs.", 16 5VSENSE (in) "5V Current Limit Set Pin.", 17 5VIN (in) "5V Supply Sense Input.", 18 5VOUT (in) "5V Output Monitor.Used to monitor the 5V output supply voltage. The PWRGD signal cannot go low until the 5VOUT pin exceeds 4.65V.", 19 VEEOUT (power) "-12V Supply Output.", 20 12VOUT (power) "12V Supply Output.A 0.5ohm switch is connected between 12VIN and 12VOUT. 12VOUT must exceed 11.1V before the P\W\R\G\D\ signal can go low on the LTC4241"

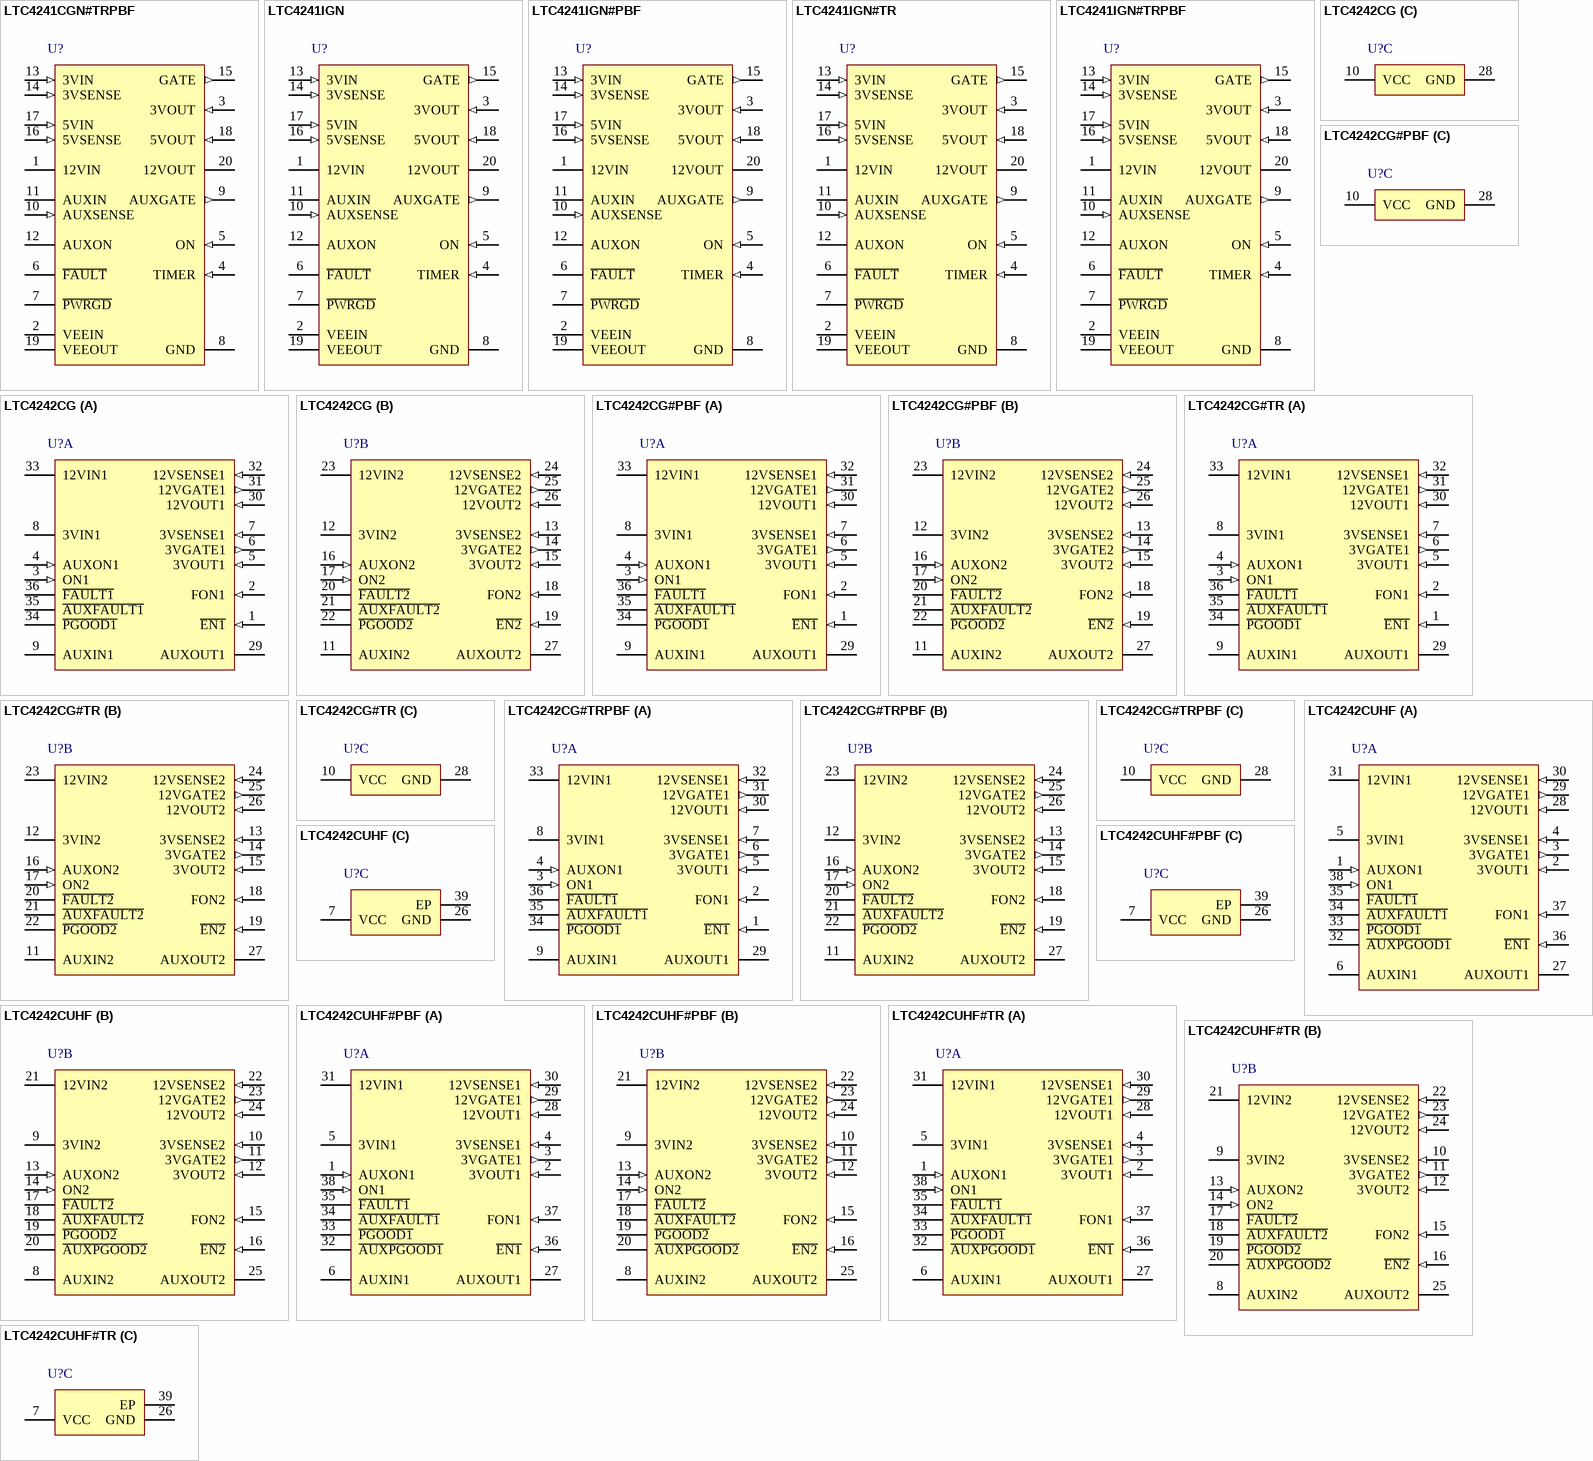
[diagram p24: symbols LTC4241CGN#TRPBF to LTC4242CUHF#TR]